# Altium integrated library Linear Technology Power Management System Supervisor, Monitor and Control.IntLib: 1611 symbols (part 66 of 100)
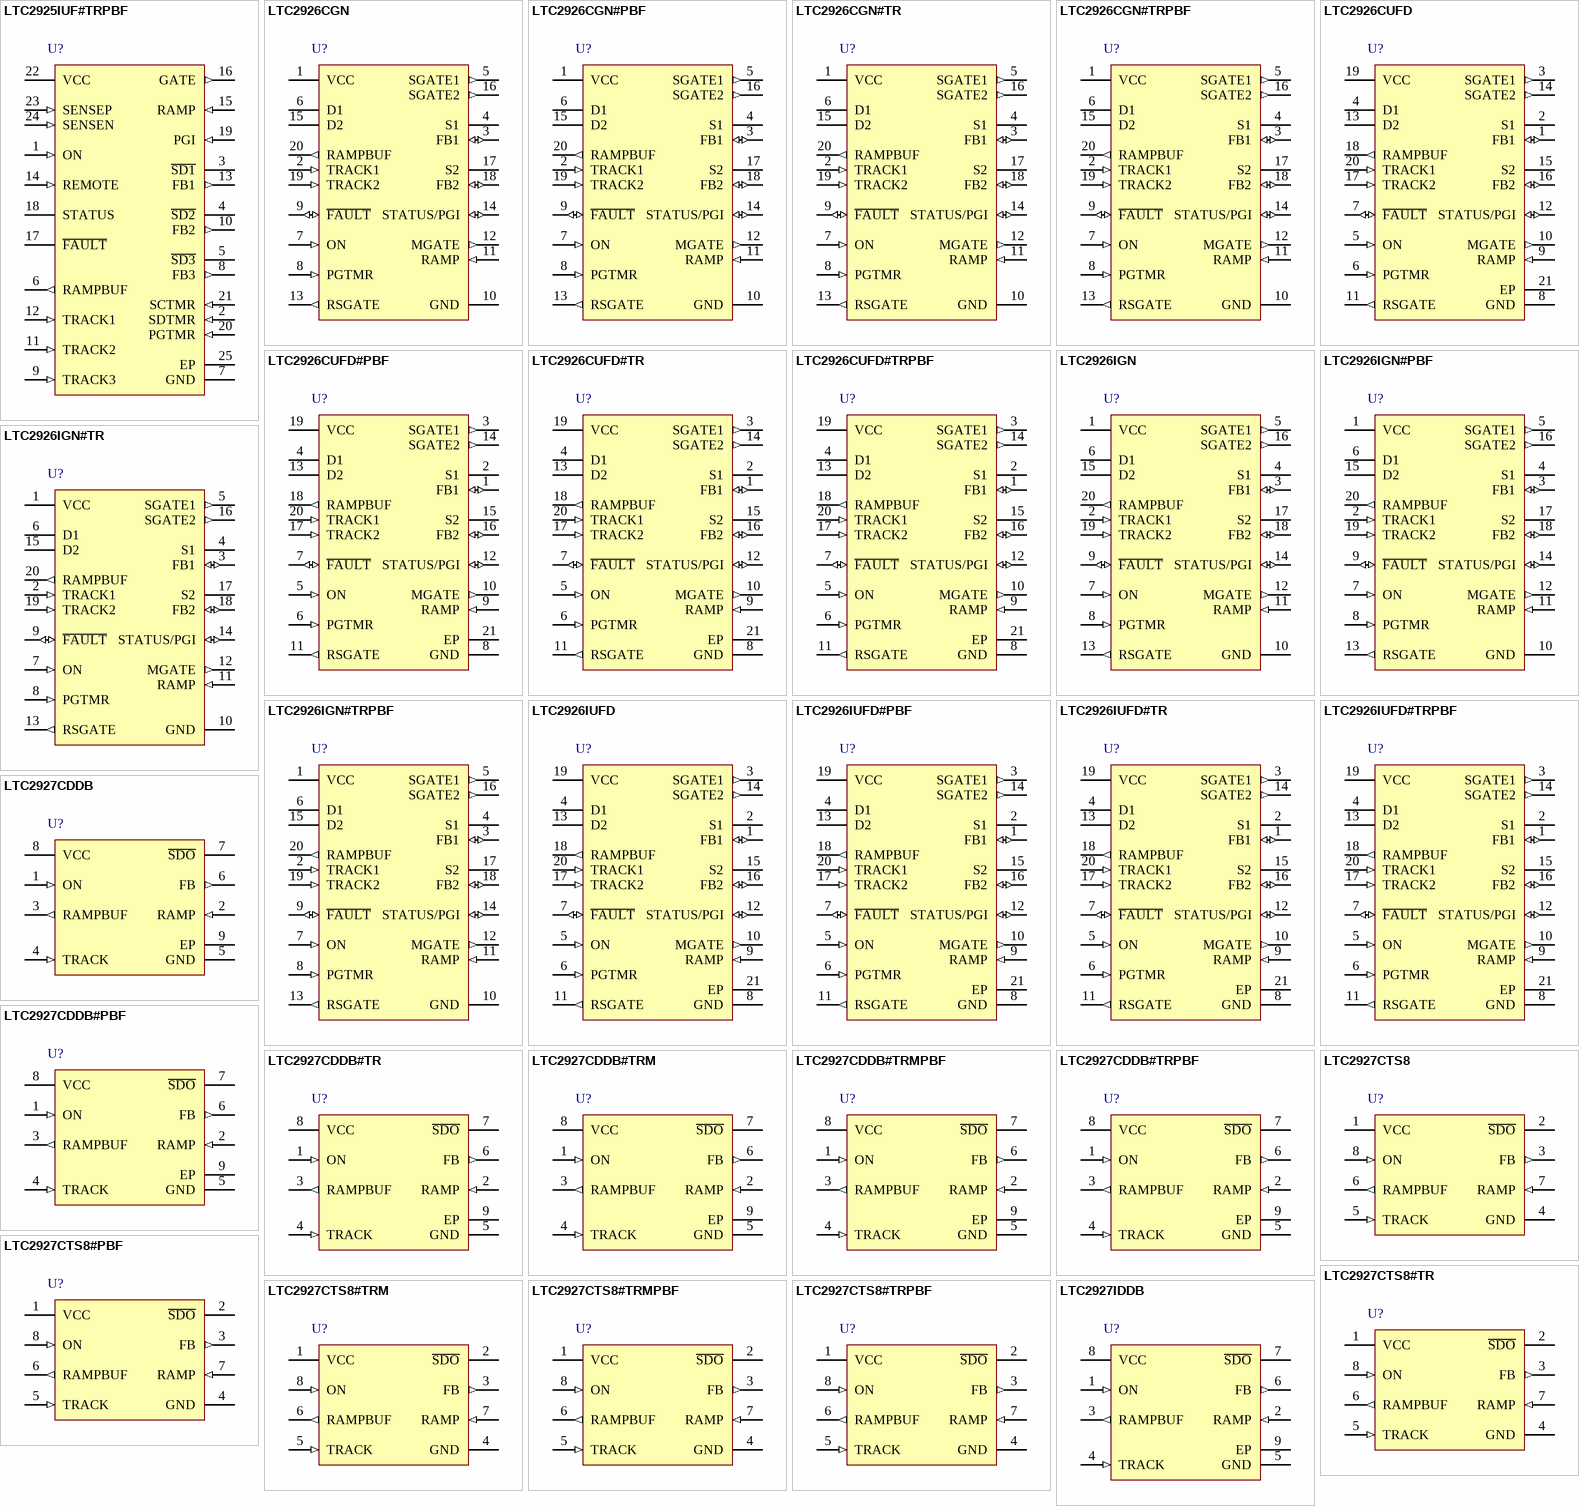
[diagram p110: symbols LTC2925IUF#TRPBF to LTC2927IDDB]

## LTC2925IUF#TRPBF
designator U?
Multiple Power Supply Tracking Controller with Power Good Timeout, 24-pin QFN (UF-24), -40 to 85 degC, Pb-Free, Tape and Reel; Manufacturer: Linear Technology; PartNumber: LTC2925IUF#TRPBF; Number of Supplies(#): 4; DatasheetVersion: Rev. C; PackageVersion: Rev. B, 02/2012; PackageReference: UF24; PackageDescription: 24-Pin Plastic QFN, Body 4 x 4 mm, Pitch 0.5 mm; Supplier 1: Digi-Key; Supplier Part Number 1: LTC2925IUF#TRPBF-ND; Packing: Tape and Reel; RoHS: TRUE; Mounting Technology: Surface Mount; Code_JEDEC: MO-220; ComponentLink1Description: Manufacturer URL; ComponentLink1URL: http://www.linear.com/; ComponentLink2Description: Datasheet; ComponentLink2URL: http://cds.linear.com/docs/en/datasheet/2925fc.pdf; ComponentLink3Description: Package Specification; ComponentLink3URL: http://cds.linear.com/docs/en/packaging/%28UF24%29%20QFN%2005-08-1697%20Rev%20B.pdf
footprint LT-UF-24_N (QFN, 24-Leads, Body 4.1x4.1mm, Pitch 0.5mm, Thermal Pad 2.45x2.45mm, IPC Medium Density)
footprint LT-UF-24_L (QFN, 24-Leads, Body 4.1x4.1mm, Pitch 0.5mm, Thermal Pad 2.45x2.45mm, IPC High Density)
footprint LT-UF-24_M (QFN, 24-Leads, Body 4.1x4.1mm, Pitch 0.5mm, Thermal Pad 2.45x2.45mm, IPC Low Density)
pins: 1 ON (in) "On Control Input. The ON pin has a threshold of 1.23V with 75mV of hysteresis. An active high will cause 10uA to flow from the GATE pin, ramping up the supplies. An active low pulls 10uA from the GATE pin, ramping the (See Datasheet)", 2 SDTMR (in) "Shutdown Timer. A capacitor from SDTMR to GND sets the delay time between the ON pin transitioning high (which releases the S\D\x\ pins) and the supplies beginning to ramp-up. Float SDTMR when it is unused.", 3 ~{SD1} (oc) "Outputs for Slave Supply Shutdowns. The S\D\x\ pins are open-drain outputs that hold the shutdown (RUN/SS) pins of the slave supplies low until the ON pin is pulled above 1.23V. The S\D\x\ pins will be pulled low again when (See Datasheet)", 4 ~{SD2} (oc) "Outputs for Slave Supply Shutdowns. The S\D\x\ pins are open-drain outputs that hold the shutdown (RUN/SS) pins of the slave supplies low until the ON pin is pulled above 1.23V. The S\D\x\ pins will be pulled low again when (See Datasheet)", 5 ~{SD3} (oc) "Outputs for Slave Supply Shutdowns. The S\D\x\ pins are open-drain outputs that hold the shutdown (RUN/SS) pins of the slave supplies low until the ON pin is pulled above 1.23V. The S\D\x\ pins will be pulled low again when (See Datasheet)", 6 RAMPBUF (out) "Ramp Buffer Output. Provides a low impedance buffered version of the signal on the RAMP pin. This buffered output drives the resistive dividers that connect to the TRACKx pins. Limit the capacitance at the RAMPBUF pin to (See Datasheet)", 7 GND (power) "Circuit Ground", 8 FB3 (out) "Feedback Control Output. FBx connects to the feedback node of slave supplies. Tracking is achieved by mirroring the current from TRACKx into FBx. If the appropriate resistive divider connects RAMPBUF and TRACKx, the FBx (See Datasheet)", 9 TRACK3 (in) "Tracking Control Input Pin. A resistive divider between RAMPBUF, TRACKx and GND determines the tracking profi le of OUTx (see Applications Information). TRACKx pulls up to 0.8V and the current supplied at TRACKx is mirrored (See Datasheet)", 10 FB2 (out) "Feedback Control Output. FBx connects to the feedback node of slave supplies. Tracking is achieved by mirroring the current from TRACKx into FBx. If the appropriate resistive divider connects RAMPBUF and TRACKx, the FBx (See Datasheet)", 11 TRACK2 (in) "Tracking Control Input Pin. A resistive divider between RAMPBUF, TRACKx and GND determines the tracking profi le of OUTx (see Applications Information). TRACKx pulls up to 0.8V and the current supplied at TRACKx is mirrored (See Datasheet)", 12 TRACK1 (in) "Tracking Control Input Pin. A resistive divider between RAMPBUF, TRACKx and GND determines the tracking profi le of OUTx (see Applications Information). TRACKx pulls up to 0.8V and the current supplied at TRACKx is mirrored (See Datasheet)", 13 FB1 (out) "Feedback Control Output. FBx connects to the feedback node of slave supplies. Tracking is achieved by mirroring the current from TRACKx into FBx. If the appropriate resistive divider connects RAMPBUF and TRACKx, the FBx (See Datasheet)", 14 REMOTE (in) "Remote Sense Switch. A 15ohm switch connects REMOTE to RAMP when the GATE is fully enhanced (GATE > RAMP + 4.9V). Otherwise, it presents a high impedance. When the slave supplies track the master supply, REMOTE can be used (See Datasheet)", 15 RAMP (in) "Ramp Buffer Input. When the RAMP pin is connected to the source of the external N-channel FET, the slave supplies track the FET’s source as it ramps up and down. Alternatively, when no external FET is used, the RAMP pi(See Datasheet)", 16 GATE (out) "Gate Drive for External N-Channel FET. When the ON pin is high, an internal 10uA current source charges the gate of the external N-channel MOSFET.A capacitor connected from GATE to GND sets the ramp rate. It is a good (See Datasheet)", 17 ~{FAULT} (oc) "Circuit Breaker and Power Good Timer Fault Output. F\A\U\L\T\ is an open-drain output that pulls low when the electronic circuit breaker is activated or a power good timeout fault is detected. F\A\U\L\T\ is reset by pulling (See Datasheet)", 18 STATUS (hiz) "Power Good Status Indicator. The STATUS pin is an open-drain output that pulls low until GATE has been fully charged at which time all supplies will have reached their final operating voltage.", 19 PGI (in) "Power Good Timer Input. PGI connects to the R\S\T\ pin of the downstream supply monitor. If PGI has not transitioned high within a power good timer cycle (see PGTMR), the F\A\U\L\T\ pin will be pulled low and the supplies (See Datasheet)", 20 PGTMR (in) "Power Good Timer. A capacitor from PGTMR to GND sets the power good timer duration.While ON > 1.23V, the PGTMR pin will pull up to VCC with 10uA. Otherwise, it pulls to GND. If the voltage on the PGTMR pin exceeds 1.23V and (See Datasheet)", 21 SCTMR (in) "Circuit Breaker Timer. A capacitor from SCTMR to GND programs the maximum time that a short circuit can be sustained before GATE is pulled low. When (SENSEP - SENSEN) > 50mV, SCTMR will pull up with 50uA, otherwise it pulls (See Datasheet)", 22 VCC (power) "Positive Supply Input. The operating supply input range is 2.9V to 5.5V. An undervoltage lockout circuit resets the part when the supply is below 2.5V. VCC should be bypassed to GND with a 0.1uF capacitor", 23 SENSEP (in) "Circuit Breaker Positive Sense Input. SENSEP and SENSEN measure the voltage across the sense resistor and trigger the circuit breaker function when the current exceeds the level programmed by the sense resistor for longer (See Datasheet)", 24 SENSEN (in) "Circuit Breaker Negative Sense Input. SENSEN connects to the low side of the current sense resistor. SENSEP and SENSEN monitor the current through the external FET by measuring the voltage across the sense resistor. The (See Datasheet)", 25 EP (power) "Circuit Ground"

## LTC2926CGN
designator U?
MOSFET-Controlled Power Supply Tracker, 20-pin SOP (GN-20), 0 to 70 degC; Manufacturer: Linear Technology; PartNumber: LTC2926CGN; Number of Supplies(#): 3; DatasheetVersion: Rev. A; PackageVersion: Rev. B, 03/2012; PackageReference: GN-20; PackageDescription: 20-Pin Plastic SSOP, Body 8.649 x 3.899 mm, Pitch 0.635 mm; RoHS: FALSE; Mounting Technology: Surface Mount; ComponentLink1Description: Manufacturer URL; ComponentLink1URL: http://www.linear.com/; ComponentLink2Description: Datasheet; ComponentLink2URL: http://cds.linear.com/docs/en/datasheet/2926fa.pdf; ComponentLink3Description: Package Specification; ComponentLink3URL: http://cds.linear.com/docs/en/packaging/05081641_B_GN20.pdf
footprint LT-GN-20_N (SOP, 20-Leads, Body 8.7x4mm, Pitch 0.635mm, IPC Medium Density)
footprint LT-GN-20_L (SOP, 20-Leads, Body 8.7x4mm, Pitch 0.635mm, IPC High Density)
footprint LT-GN-20_M (SOP, 20-Leads, Body 8.7x4mm, Pitch 0.635mm, IPC Low Density)
pins: 1 VCC (power) "Positive Voltage Supply. Operating range is from 2.9V to 5.5V. An undervoltage lockout resets the part when the supply is below 2.4V. VCC should be bypassed to GND with a 0.1uF capacitor.", 2 TRACK1 (in) "Tracking Control Inputs. A resistive voltage divider between RAMPBUF and each TRACK pin determines the tracking profi le of each supply channel. Each TRACK pin pulls up to 0.8V, and the current supplied at TRACK is mirrored (See Datasheet)", 3 FB1 (io) "Feedback Control Input/Outputs. Each FB pin connects to the feedback node of a slave supply. Connect an FB pin to the tap point of a resistive voltage divider between the source (load side) of the external MOSFET and GND. (See Datasheet)", 4 S1 "Remote Sense Switches #1 and #2. A 10ohm (max) switch connects each pair of pins (D1/S1 and D2/S2) after MGATE, SGATE1 and SGATE2 are all fully enhanced (MGATE > RAMP + 4.9V or RAMP > VCC, and SGATE1, SGATE2 > VCC + 4.9V). (See Datasheet)", 5 SGATE1 (out) "Slave Gate Controllers for External N-Channel MOSFETs. Each SGATE pin ramps a slave supply by controlling the gate of an external N-channel MOSFET so that its source terminal follows the tracking profile set by external (See Datasheet)", 6 D1 "Remote Sense Switches #1 and #2. A 10ohm (max) switch connects each pair of pins (D1/S1 and D2/S2) after MGATE, SGATE1 and SGATE2 are all fully enhanced (MGATE > RAMP + 4.9V or RAMP > VCC, and SGATE1, SGATE2 > VCC + 4.9V). (See Datasheet)", 7 ON (in) "On Control Input. The ON pin has a threshold of 1.23V with 75mV of hysteresis. A high causes 10uA to flow out of the MGATE pin, ramping up the supplies. A low causes 10uA to flow into the MGATE pin, ramping down the supplies.(See Datasheet)", 8 PGTMR (in) "Power Good Timer. Connect an external capacitor between PGTMR and GND to set the Power Good Time-Out Delay. When the ON pin is above 1.23V, a 10uA current pulls up PGTMR to VCC, otherwise an internal N-channel MOSFET pulls (See Datasheet)", 9 ~{FAULT} (io) "Negative-Logic Fault Input/Output. Under normal conditions the internal fault latch is not set and an 8.5uA current pulls up F\A\U\L\T\ to a diode drop below VCC. When the voltage at F\A\U\L\T\ is pulled below 0.5V, a fault (See Datasheet)", 10 GND (power) "Device Ground.", 11 RAMP (in) "Ramp Buffer Input. Connect the RAMP pin to the master ramp signal to force the slave supplies to track it. When the RAMP pin is connected to the source of an external N-channel MOSFET, the slave supplies track the MOSFET’(See Datasheet)", 12 MGATE (out) "Master Gate Drive for External N-Channel MOSFET/Master Ramp. When the ON pin is high, an internal 10uA current charges the gate of an external N-channel MOSFET. A capacitor from MGATE to GND sets the master ramp rate. Add a (See Datasheet)", 13 RSGATE (out) "Gate Drive for Internal and External N-Channel MOSFET Remote Sense Switches. A remote sense path between a load and the sense input of its supply generator automatically compensates for voltage drops across the tracking (See Datasheet)", 14 STATUS/PGI (io) "Status Output/Power Good Input. A 10uA current pulls up STATUS/PGI when MGATE, SGATE1 and SGATE2 are fully enhanced, and the remote sense switches are closed, otherwise an internal N-channel MOSFET pulls down STATUS/PGI. If (See Datasheet)", 15 D2 "Remote Sense Switches #1 and #2. A 10ohm (max) switch connects each pair of pins (D1/S1 and D2/S2) after MGATE, SGATE1 and SGATE2 are all fully enhanced (MGATE > RAMP + 4.9V or RAMP > VCC, and SGATE1, SGATE2 > VCC + 4.9V). (See Datasheet)", 16 SGATE2 (out) "Slave Gate Controllers for External N-Channel MOSFETs. Each SGATE pin ramps a slave supply by controlling the gate of an external N-channel MOSFET so that its source terminal follows the tracking profi le set by external (See Datasheet)", 17 S2 "Remote Sense Switches #1 and #2. A 10ohm (max) switch connects each pair of pins (D1/S1 and D2/S2) after MGATE, SGATE1 and SGATE2 are all fully enhanced (MGATE > RAMP + 4.9V or RAMP > VCC, and SGATE1, SGATE2 > VCC + 4.9V). (See Datasheet)", 18 FB2 (io) "Feedback Control Input/Outputs. Each FB pin connects to the feedback node of a slave supply. Connect an FB pin to the tap point of a resistive voltage divider between the source (load side) of the external MOSFET and GND. (See Datasheet)", 19 TRACK2 (in) "Tracking Control Inputs. A resistive voltage divider between RAMPBUF and each TRACK pin determines the tracking profi le of each supply channel. Each TRACK pin pulls up to 0.8V, and the current supplied at TRACK is mirrored (See Datasheet)", 20 RAMPBUF (out) "Ramp Buffer Output. The RAMPBUF pin provides a low impedance buffered version of the signal on the RAMP pin. This buffered output drives the resistive voltage dividers that connect to the TRACK pins. Limit the capacitance at (See Datasheet)"

## LTC2926CGN#PBF
designator U?
MOSFET-Controlled Power Supply Tracker, 20-pin SOP (GN-20), 0 to 70 degC, Pb-Free; Manufacturer: Linear Technology; PartNumber: LTC2926CGN#PBF; Number of Supplies(#): 3; DatasheetVersion: Rev. A; PackageVersion: Rev. B, 03/2012; PackageReference: GN-20; PackageDescription: 20-Pin Plastic SSOP, Body 8.649 x 3.899 mm, Pitch 0.635 mm; Supplier 1: Digi-Key; Supplier Part Number 1: LTC2926CGN#PBF-ND; Supplier 2: Newark; Supplier Part Number 2: 56M7122; RoHS: TRUE; Mounting Technology: Surface Mount; ComponentLink1Description: Manufacturer URL; ComponentLink1URL: http://www.linear.com/; ComponentLink2Description: Datasheet; ComponentLink2URL: http://cds.linear.com/docs/en/datasheet/2926fa.pdf; ComponentLink3Description: Package Specification; ComponentLink3URL: http://cds.linear.com/docs/en/packaging/05081641_B_GN20.pdf
footprint LT-GN-20_N (SOP, 20-Leads, Body 8.7x4mm, Pitch 0.635mm, IPC Medium Density)
footprint LT-GN-20_L (SOP, 20-Leads, Body 8.7x4mm, Pitch 0.635mm, IPC High Density)
footprint LT-GN-20_M (SOP, 20-Leads, Body 8.7x4mm, Pitch 0.635mm, IPC Low Density)
pins: 1 VCC (power) "Positive Voltage Supply. Operating range is from 2.9V to 5.5V. An undervoltage lockout resets the part when the supply is below 2.4V. VCC should be bypassed to GND with a 0.1uF capacitor.", 2 TRACK1 (in) "Tracking Control Inputs. A resistive voltage divider between RAMPBUF and each TRACK pin determines the tracking profi le of each supply channel. Each TRACK pin pulls up to 0.8V, and the current supplied at TRACK is mirrored (See Datasheet)", 3 FB1 (io) "Feedback Control Input/Outputs. Each FB pin connects to the feedback node of a slave supply. Connect an FB pin to the tap point of a resistive voltage divider between the source (load side) of the external MOSFET and GND. (See Datasheet)", 4 S1 "Remote Sense Switches #1 and #2. A 10ohm (max) switch connects each pair of pins (D1/S1 and D2/S2) after MGATE, SGATE1 and SGATE2 are all fully enhanced (MGATE > RAMP + 4.9V or RAMP > VCC, and SGATE1, SGATE2 > VCC + 4.9V). (See Datasheet)", 5 SGATE1 (out) "Slave Gate Controllers for External N-Channel MOSFETs. Each SGATE pin ramps a slave supply by controlling the gate of an external N-channel MOSFET so that its source terminal follows the tracking profile set by external (See Datasheet)", 6 D1 "Remote Sense Switches #1 and #2. A 10ohm (max) switch connects each pair of pins (D1/S1 and D2/S2) after MGATE, SGATE1 and SGATE2 are all fully enhanced (MGATE > RAMP + 4.9V or RAMP > VCC, and SGATE1, SGATE2 > VCC + 4.9V). (See Datasheet)", 7 ON (in) "On Control Input. The ON pin has a threshold of 1.23V with 75mV of hysteresis. A high causes 10uA to flow out of the MGATE pin, ramping up the supplies. A low causes 10uA to flow into the MGATE pin, ramping down the supplies.(See Datasheet)", 8 PGTMR (in) "Power Good Timer. Connect an external capacitor between PGTMR and GND to set the Power Good Time-Out Delay. When the ON pin is above 1.23V, a 10uA current pulls up PGTMR to VCC, otherwise an internal N-channel MOSFET pulls (See Datasheet)", 9 ~{FAULT} (io) "Negative-Logic Fault Input/Output. Under normal conditions the internal fault latch is not set and an 8.5uA current pulls up F\A\U\L\T\ to a diode drop below VCC. When the voltage at F\A\U\L\T\ is pulled below 0.5V, a fault (See Datasheet)", 10 GND (power) "Device Ground.", 11 RAMP (in) "Ramp Buffer Input. Connect the RAMP pin to the master ramp signal to force the slave supplies to track it. When the RAMP pin is connected to the source of an external N-channel MOSFET, the slave supplies track the MOSFET’(See Datasheet)", 12 MGATE (out) "Master Gate Drive for External N-Channel MOSFET/Master Ramp. When the ON pin is high, an internal 10uA current charges the gate of an external N-channel MOSFET. A capacitor from MGATE to GND sets the master ramp rate. Add a (See Datasheet)", 13 RSGATE (out) "Gate Drive for Internal and External N-Channel MOSFET Remote Sense Switches. A remote sense path between a load and the sense input of its supply generator automatically compensates for voltage drops across the tracking (See Datasheet)", 14 STATUS/PGI (io) "Status Output/Power Good Input. A 10uA current pulls up STATUS/PGI when MGATE, SGATE1 and SGATE2 are fully enhanced, and the remote sense switches are closed, otherwise an internal N-channel MOSFET pulls down STATUS/PGI. If (See Datasheet)", 15 D2 "Remote Sense Switches #1 and #2. A 10ohm (max) switch connects each pair of pins (D1/S1 and D2/S2) after MGATE, SGATE1 and SGATE2 are all fully enhanced (MGATE > RAMP + 4.9V or RAMP > VCC, and SGATE1, SGATE2 > VCC + 4.9V). (See Datasheet)", 16 SGATE2 (out) "Slave Gate Controllers for External N-Channel MOSFETs. Each SGATE pin ramps a slave supply by controlling the gate of an external N-channel MOSFET so that its source terminal follows the tracking profi le set by external (See Datasheet)", 17 S2 "Remote Sense Switches #1 and #2. A 10ohm (max) switch connects each pair of pins (D1/S1 and D2/S2) after MGATE, SGATE1 and SGATE2 are all fully enhanced (MGATE > RAMP + 4.9V or RAMP > VCC, and SGATE1, SGATE2 > VCC + 4.9V). (See Datasheet)", 18 FB2 (io) "Feedback Control Input/Outputs. Each FB pin connects to the feedback node of a slave supply. Connect an FB pin to the tap point of a resistive voltage divider between the source (load side) of the external MOSFET and GND. (See Datasheet)", 19 TRACK2 (in) "Tracking Control Inputs. A resistive voltage divider between RAMPBUF and each TRACK pin determines the tracking profi le of each supply channel. Each TRACK pin pulls up to 0.8V, and the current supplied at TRACK is mirrored (See Datasheet)", 20 RAMPBUF (out) "Ramp Buffer Output. The RAMPBUF pin provides a low impedance buffered version of the signal on the RAMP pin. This buffered output drives the resistive voltage dividers that connect to the TRACK pins. Limit the capacitance at (See Datasheet)"

## LTC2926CGN#TR
designator U?
MOSFET-Controlled Power Supply Tracker, 20-pin SOP (GN-20), 0 to 70 degC, Tape and Reel; Manufacturer: Linear Technology; PartNumber: LTC2926CGN#TR; Number of Supplies(#): 3; DatasheetVersion: Rev. A; PackageVersion: Rev. B, 03/2012; PackageReference: GN-20; PackageDescription: 20-Pin Plastic SSOP, Body 8.649 x 3.899 mm, Pitch 0.635 mm; Packing: Tape and Reel; RoHS: FALSE; Mounting Technology: Surface Mount; ComponentLink1Description: Manufacturer URL; ComponentLink1URL: http://www.linear.com/; ComponentLink2Description: Datasheet; ComponentLink2URL: http://cds.linear.com/docs/en/datasheet/2926fa.pdf; ComponentLink3Description: Package Specification; ComponentLink3URL: http://cds.linear.com/docs/en/packaging/05081641_B_GN20.pdf
footprint LT-GN-20_N (SOP, 20-Leads, Body 8.7x4mm, Pitch 0.635mm, IPC Medium Density)
footprint LT-GN-20_L (SOP, 20-Leads, Body 8.7x4mm, Pitch 0.635mm, IPC High Density)
footprint LT-GN-20_M (SOP, 20-Leads, Body 8.7x4mm, Pitch 0.635mm, IPC Low Density)
pins: 1 VCC (power) "Positive Voltage Supply. Operating range is from 2.9V to 5.5V. An undervoltage lockout resets the part when the supply is below 2.4V. VCC should be bypassed to GND with a 0.1uF capacitor.", 2 TRACK1 (in) "Tracking Control Inputs. A resistive voltage divider between RAMPBUF and each TRACK pin determines the tracking profi le of each supply channel. Each TRACK pin pulls up to 0.8V, and the current supplied at TRACK is mirrored (See Datasheet)", 3 FB1 (io) "Feedback Control Input/Outputs. Each FB pin connects to the feedback node of a slave supply. Connect an FB pin to the tap point of a resistive voltage divider between the source (load side) of the external MOSFET and GND. (See Datasheet)", 4 S1 "Remote Sense Switches #1 and #2. A 10ohm (max) switch connects each pair of pins (D1/S1 and D2/S2) after MGATE, SGATE1 and SGATE2 are all fully enhanced (MGATE > RAMP + 4.9V or RAMP > VCC, and SGATE1, SGATE2 > VCC + 4.9V). (See Datasheet)", 5 SGATE1 (out) "Slave Gate Controllers for External N-Channel MOSFETs. Each SGATE pin ramps a slave supply by controlling the gate of an external N-channel MOSFET so that its source terminal follows the tracking profile set by external (See Datasheet)", 6 D1 "Remote Sense Switches #1 and #2. A 10ohm (max) switch connects each pair of pins (D1/S1 and D2/S2) after MGATE, SGATE1 and SGATE2 are all fully enhanced (MGATE > RAMP + 4.9V or RAMP > VCC, and SGATE1, SGATE2 > VCC + 4.9V). (See Datasheet)", 7 ON (in) "On Control Input. The ON pin has a threshold of 1.23V with 75mV of hysteresis. A high causes 10uA to flow out of the MGATE pin, ramping up the supplies. A low causes 10uA to flow into the MGATE pin, ramping down the supplies.(See Datasheet)", 8 PGTMR (in) "Power Good Timer. Connect an external capacitor between PGTMR and GND to set the Power Good Time-Out Delay. When the ON pin is above 1.23V, a 10uA current pulls up PGTMR to VCC, otherwise an internal N-channel MOSFET pulls (See Datasheet)", 9 ~{FAULT} (io) "Negative-Logic Fault Input/Output. Under normal conditions the internal fault latch is not set and an 8.5uA current pulls up F\A\U\L\T\ to a diode drop below VCC. When the voltage at F\A\U\L\T\ is pulled below 0.5V, a fault (See Datasheet)", 10 GND (power) "Device Ground.", 11 RAMP (in) "Ramp Buffer Input. Connect the RAMP pin to the master ramp signal to force the slave supplies to track it. When the RAMP pin is connected to the source of an external N-channel MOSFET, the slave supplies track the MOSFET’(See Datasheet)", 12 MGATE (out) "Master Gate Drive for External N-Channel MOSFET/Master Ramp. When the ON pin is high, an internal 10uA current charges the gate of an external N-channel MOSFET. A capacitor from MGATE to GND sets the master ramp rate. Add a (See Datasheet)", 13 RSGATE (out) "Gate Drive for Internal and External N-Channel MOSFET Remote Sense Switches. A remote sense path between a load and the sense input of its supply generator automatically compensates for voltage drops across the tracking (See Datasheet)", 14 STATUS/PGI (io) "Status Output/Power Good Input. A 10uA current pulls up STATUS/PGI when MGATE, SGATE1 and SGATE2 are fully enhanced, and the remote sense switches are closed, otherwise an internal N-channel MOSFET pulls down STATUS/PGI. If (See Datasheet)", 15 D2 "Remote Sense Switches #1 and #2. A 10ohm (max) switch connects each pair of pins (D1/S1 and D2/S2) after MGATE, SGATE1 and SGATE2 are all fully enhanced (MGATE > RAMP + 4.9V or RAMP > VCC, and SGATE1, SGATE2 > VCC + 4.9V). (See Datasheet)", 16 SGATE2 (out) "Slave Gate Controllers for External N-Channel MOSFETs. Each SGATE pin ramps a slave supply by controlling the gate of an external N-channel MOSFET so that its source terminal follows the tracking profi le set by external (See Datasheet)", 17 S2 "Remote Sense Switches #1 and #2. A 10ohm (max) switch connects each pair of pins (D1/S1 and D2/S2) after MGATE, SGATE1 and SGATE2 are all fully enhanced (MGATE > RAMP + 4.9V or RAMP > VCC, and SGATE1, SGATE2 > VCC + 4.9V). (See Datasheet)", 18 FB2 (io) "Feedback Control Input/Outputs. Each FB pin connects to the feedback node of a slave supply. Connect an FB pin to the tap point of a resistive voltage divider between the source (load side) of the external MOSFET and GND. (See Datasheet)", 19 TRACK2 (in) "Tracking Control Inputs. A resistive voltage divider between RAMPBUF and each TRACK pin determines the tracking profi le of each supply channel. Each TRACK pin pulls up to 0.8V, and the current supplied at TRACK is mirrored (See Datasheet)", 20 RAMPBUF (out) "Ramp Buffer Output. The RAMPBUF pin provides a low impedance buffered version of the signal on the RAMP pin. This buffered output drives the resistive voltage dividers that connect to the TRACK pins. Limit the capacitance at (See Datasheet)"

## LTC2926CGN#TRPBF
designator U?
MOSFET-Controlled Power Supply Tracker, 20-pin SOP (GN-20), 0 to 70 degC, Pb-Free, Tape and Reel; Manufacturer: Linear Technology; PartNumber: LTC2926CGN#TRPBF; Number of Supplies(#): 3; DatasheetVersion: Rev. A; PackageVersion: Rev. B, 03/2012; PackageReference: GN-20; PackageDescription: 20-Pin Plastic SSOP, Body 8.649 x 3.899 mm, Pitch 0.635 mm; Supplier 1: Digi-Key; Supplier Part Number 1: LTC2926CGN#TRPBF-ND; Packing: Tape and Reel; RoHS: TRUE; Mounting Technology: Surface Mount; ComponentLink1Description: Manufacturer URL; ComponentLink1URL: http://www.linear.com/; ComponentLink2Description: Datasheet; ComponentLink2URL: http://cds.linear.com/docs/en/datasheet/2926fa.pdf; ComponentLink3Description: Package Specification; ComponentLink3URL: http://cds.linear.com/docs/en/packaging/05081641_B_GN20.pdf
footprint LT-GN-20_N (SOP, 20-Leads, Body 8.7x4mm, Pitch 0.635mm, IPC Medium Density)
footprint LT-GN-20_L (SOP, 20-Leads, Body 8.7x4mm, Pitch 0.635mm, IPC High Density)
footprint LT-GN-20_M (SOP, 20-Leads, Body 8.7x4mm, Pitch 0.635mm, IPC Low Density)
pins: 1 VCC (power) "Positive Voltage Supply. Operating range is from 2.9V to 5.5V. An undervoltage lockout resets the part when the supply is below 2.4V. VCC should be bypassed to GND with a 0.1uF capacitor.", 2 TRACK1 (in) "Tracking Control Inputs. A resistive voltage divider between RAMPBUF and each TRACK pin determines the tracking profi le of each supply channel. Each TRACK pin pulls up to 0.8V, and the current supplied at TRACK is mirrored (See Datasheet)", 3 FB1 (io) "Feedback Control Input/Outputs. Each FB pin connects to the feedback node of a slave supply. Connect an FB pin to the tap point of a resistive voltage divider between the source (load side) of the external MOSFET and GND. (See Datasheet)", 4 S1 "Remote Sense Switches #1 and #2. A 10ohm (max) switch connects each pair of pins (D1/S1 and D2/S2) after MGATE, SGATE1 and SGATE2 are all fully enhanced (MGATE > RAMP + 4.9V or RAMP > VCC, and SGATE1, SGATE2 > VCC + 4.9V). (See Datasheet)", 5 SGATE1 (out) "Slave Gate Controllers for External N-Channel MOSFETs. Each SGATE pin ramps a slave supply by controlling the gate of an external N-channel MOSFET so that its source terminal follows the tracking profile set by external (See Datasheet)", 6 D1 "Remote Sense Switches #1 and #2. A 10ohm (max) switch connects each pair of pins (D1/S1 and D2/S2) after MGATE, SGATE1 and SGATE2 are all fully enhanced (MGATE > RAMP + 4.9V or RAMP > VCC, and SGATE1, SGATE2 > VCC + 4.9V). (See Datasheet)", 7 ON (in) "On Control Input. The ON pin has a threshold of 1.23V with 75mV of hysteresis. A high causes 10uA to flow out of the MGATE pin, ramping up the supplies. A low causes 10uA to flow into the MGATE pin, ramping down the supplies.(See Datasheet)", 8 PGTMR (in) "Power Good Timer. Connect an external capacitor between PGTMR and GND to set the Power Good Time-Out Delay. When the ON pin is above 1.23V, a 10uA current pulls up PGTMR to VCC, otherwise an internal N-channel MOSFET pulls (See Datasheet)", 9 ~{FAULT} (io) "Negative-Logic Fault Input/Output. Under normal conditions the internal fault latch is not set and an 8.5uA current pulls up F\A\U\L\T\ to a diode drop below VCC. When the voltage at F\A\U\L\T\ is pulled below 0.5V, a fault (See Datasheet)", 10 GND (power) "Device Ground.", 11 RAMP (in) "Ramp Buffer Input. Connect the RAMP pin to the master ramp signal to force the slave supplies to track it. When the RAMP pin is connected to the source of an external N-channel MOSFET, the slave supplies track the MOSFET’(See Datasheet)", 12 MGATE (out) "Master Gate Drive for External N-Channel MOSFET/Master Ramp. When the ON pin is high, an internal 10uA current charges the gate of an external N-channel MOSFET. A capacitor from MGATE to GND sets the master ramp rate. Add a (See Datasheet)", 13 RSGATE (out) "Gate Drive for Internal and External N-Channel MOSFET Remote Sense Switches. A remote sense path between a load and the sense input of its supply generator automatically compensates for voltage drops across the tracking (See Datasheet)", 14 STATUS/PGI (io) "Status Output/Power Good Input. A 10uA current pulls up STATUS/PGI when MGATE, SGATE1 and SGATE2 are fully enhanced, and the remote sense switches are closed, otherwise an internal N-channel MOSFET pulls down STATUS/PGI. If (See Datasheet)", 15 D2 "Remote Sense Switches #1 and #2. A 10ohm (max) switch connects each pair of pins (D1/S1 and D2/S2) after MGATE, SGATE1 and SGATE2 are all fully enhanced (MGATE > RAMP + 4.9V or RAMP > VCC, and SGATE1, SGATE2 > VCC + 4.9V). (See Datasheet)", 16 SGATE2 (out) "Slave Gate Controllers for External N-Channel MOSFETs. Each SGATE pin ramps a slave supply by controlling the gate of an external N-channel MOSFET so that its source terminal follows the tracking profi le set by external (See Datasheet)", 17 S2 "Remote Sense Switches #1 and #2. A 10ohm (max) switch connects each pair of pins (D1/S1 and D2/S2) after MGATE, SGATE1 and SGATE2 are all fully enhanced (MGATE > RAMP + 4.9V or RAMP > VCC, and SGATE1, SGATE2 > VCC + 4.9V). (See Datasheet)", 18 FB2 (io) "Feedback Control Input/Outputs. Each FB pin connects to the feedback node of a slave supply. Connect an FB pin to the tap point of a resistive voltage divider between the source (load side) of the external MOSFET and GND. (See Datasheet)", 19 TRACK2 (in) "Tracking Control Inputs. A resistive voltage divider between RAMPBUF and each TRACK pin determines the tracking profi le of each supply channel. Each TRACK pin pulls up to 0.8V, and the current supplied at TRACK is mirrored (See Datasheet)", 20 RAMPBUF (out) "Ramp Buffer Output. The RAMPBUF pin provides a low impedance buffered version of the signal on the RAMP pin. This buffered output drives the resistive voltage dividers that connect to the TRACK pins. Limit the capacitance at (See Datasheet)"

## LTC2926CUFD
designator U?
MOSFET-Controlled Power Supply Tracker, 20-pin QFN (UFD-20), 0 to 70 degC; Manufacturer: Linear Technology; PartNumber: LTC2926CUFD; Number of Supplies(#): 3; DatasheetVersion: Rev. A; PackageVersion: Rev. B, 06/2010; PackageReference: UFD-20; PackageDescription: 20-Pin Plastic QFN, Body 5 x 4 mm, Pitch 0.5 mm; RoHS: FALSE; Mounting Technology: Surface Mount; Code_JEDEC: MO-220; ComponentLink1Description: Manufacturer URL; ComponentLink1URL: http://www.linear.com/; ComponentLink2Description: Datasheet; ComponentLink2URL: http://cds.linear.com/docs/en/datasheet/2926fa.pdf; ComponentLink3Description: Package Specification; ComponentLink3URL: http://cds.linear.com/docs/en/packaging/QFN_20_05-08-1711.pdf
footprint LT-UFD-20_N (QFN, 20-Leads, Body 5.1x4.1mm, Pitch 0.5mm, Thermal Pad 2.65x3.65mm, IPC Medium Density)
footprint LT-UFD-20_L (QFN, 20-Leads, Body 5.1x4.1mm, Pitch 0.5mm, Thermal Pad 2.65x3.65mm, IPC High Density)
footprint LT-UFD-20_M (QFN, 20-Leads, Body 5.1x4.1mm, Pitch 0.5mm, Thermal Pad 2.65x3.65mm, IPC Low Density)
pins: 1 FB1 (io) "Feedback Control Input/Outputs. Each FB pin connects to the feedback node of a slave supply. Connect an FB pin to the tap point of a resistive voltage divider between the source (load side) of the external MOSFET and GND. (See Datasheet)", 2 S1 "Remote Sense Switches #1 and #2. A 10ohm (max) switch connects each pair of pins (D1/S1 and D2/S2) after MGATE, SGATE1 and SGATE2 are all fully enhanced (MGATE > RAMP + 4.9V or RAMP > VCC, and SGATE1, SGATE2 > VCC + 4.9V). (See Datasheet)", 3 SGATE1 (out) "Slave Gate Controllers for External N-Channel MOSFETs. Each SGATE pin ramps a slave supply by controlling the gate of an external N-channel MOSFET so that its source terminal follows the tracking profile set by external (See Datasheet)", 4 D1 "Remote Sense Switches #1 and #2. A 10ohm (max) switch connects each pair of pins (D1/S1 and D2/S2) after MGATE, SGATE1 and SGATE2 are all fully enhanced (MGATE > RAMP + 4.9V or RAMP > VCC, and SGATE1, SGATE2 > VCC + 4.9V). (See Datasheet)", 5 ON (in) "On Control Input. The ON pin has a threshold of 1.23V with 75mV of hysteresis. A high causes 10uA to flow out of the MGATE pin, ramping up the supplies. A low causes 10uA to flow into the MGATE pin, ramping down the supplies.(See Datasheet)", 6 PGTMR (in) "Power Good Timer. Connect an external capacitor between PGTMR and GND to set the Power Good Time-Out Delay. When the ON pin is above 1.23V, a 10uA current pulls up PGTMR to VCC, otherwise an internal N-channel MOSFET pulls (See Datasheet)", 7 ~{FAULT} (io) "Negative-Logic Fault Input/Output. Under normal conditions the internal fault latch is not set and an 8.5uA current pulls up F\A\U\L\T\ to a diode drop below VCC. When the voltage at F\A\U\L\T\ is pulled below 0.5V, a fault (See Datasheet)", 8 GND (power) "Device Ground.", 9 RAMP (in) "Ramp Buffer Input. Connect the RAMP pin to the master ramp signal to force the slave supplies to track it. When the RAMP pin is connected to the source of an external N-channel MOSFET, the slave supplies track the MOSFET’(See Datasheet)", 10 MGATE (out) "Master Gate Drive for External N-Channel MOSFET/Master Ramp. When the ON pin is high, an internal 10uA current charges the gate of an external N-channel MOSFET. A capacitor from MGATE to GND sets the master ramp rate. Add a (See Datasheet)", 11 RSGATE (out) "Gate Drive for Internal and External N-Channel MOSFET Remote Sense Switches. A remote sense path between a load and the sense input of its supply generator automatically compensates for voltage drops across the tracking (See Datasheet)", 12 STATUS/PGI (io) "Status Output/Power Good Input. A 10uA current pulls up STATUS/PGI when MGATE, SGATE1 and SGATE2 are fully enhanced, and the remote sense switches are closed, otherwise an internal N-channel MOSFET pulls down STATUS/PGI. If (See Datasheet)", 13 D2 "Remote Sense Switches #1 and #2. A 10ohm (max) switch connects each pair of pins (D1/S1 and D2/S2) after MGATE, SGATE1 and SGATE2 are all fully enhanced (MGATE > RAMP + 4.9V or RAMP > VCC, and SGATE1, SGATE2 > VCC + 4.9V). (See Datasheet)", 14 SGATE2 (out) "Slave Gate Controllers for External N-Channel MOSFETs. Each SGATE pin ramps a slave supply by controlling the gate of an external N-channel MOSFET so that its source terminal follows the tracking profi le set by external (See Datasheet)", 15 S2 "Remote Sense Switches #1 and #2. A 10ohm (max) switch connects each pair of pins (D1/S1 and D2/S2) after MGATE, SGATE1 and SGATE2 are all fully enhanced (MGATE > RAMP + 4.9V or RAMP > VCC, and SGATE1, SGATE2 > VCC + 4.9V). (See Datasheet)", 16 FB2 (io) "Feedback Control Input/Outputs. Each FB pin connects to the feedback node of a slave supply. Connect an FB pin to the tap point of a resistive voltage divider between the source (load side) of the external MOSFET and GND. (See Datasheet)", 17 TRACK2 (in) "Tracking Control Inputs. A resistive voltage divider between RAMPBUF and each TRACK pin determines the tracking profi le of each supply channel. Each TRACK pin pulls up to 0.8V, and the current supplied at TRACK is mirrored (See Datasheet)", 18 RAMPBUF (out) "Ramp Buffer Output. The RAMPBUF pin provides a low impedance buffered version of the signal on the RAMP pin. This buffered output drives the resistive voltage dividers that connect to the TRACK pins. Limit the capacitance at (See Datasheet)", 19 VCC (power) "Positive Voltage Supply. Operating range is from 2.9V to 5.5V. An undervoltage lockout resets the part when the supply is below 2.4V. VCC should be bypassed to GND with a 0.1uF capacitor.", 20 TRACK1 (in) "Tracking Control Inputs. A resistive voltage divider between RAMPBUF and each TRACK pin determines the tracking profi le of each supply channel. Each TRACK pin pulls up to 0.8V, and the current supplied at TRACK is mirrored (See Datasheet)", 21 EP (power) "Exposed pad may be left open or connected to device GND."

## LTC2926CUFD#PBF
designator U?
MOSFET-Controlled Power Supply Tracker, 20-pin QFN (UFD-20), 0 to 70 degC, Pb-Free; Manufacturer: Linear Technology; PartNumber: LTC2926CUFD#PBF; Number of Supplies(#): 3; DatasheetVersion: Rev. A; PackageVersion: Rev. B, 06/2010; PackageReference: UFD-20; PackageDescription: 20-Pin Plastic QFN, Body 5 x 4 mm, Pitch 0.5 mm; Supplier 1: Digi-Key; Supplier Part Number 1: LTC2926CUFD#PBF-ND; RoHS: TRUE; Mounting Technology: Surface Mount; Code_JEDEC: MO-220; ComponentLink1Description: Manufacturer URL; ComponentLink1URL: http://www.linear.com/; ComponentLink2Description: Datasheet; ComponentLink2URL: http://cds.linear.com/docs/en/datasheet/2926fa.pdf; ComponentLink3Description: Package Specification; ComponentLink3URL: http://cds.linear.com/docs/en/packaging/QFN_20_05-08-1711.pdf
footprint LT-UFD-20_N (QFN, 20-Leads, Body 5.1x4.1mm, Pitch 0.5mm, Thermal Pad 2.65x3.65mm, IPC Medium Density)
footprint LT-UFD-20_L (QFN, 20-Leads, Body 5.1x4.1mm, Pitch 0.5mm, Thermal Pad 2.65x3.65mm, IPC High Density)
footprint LT-UFD-20_M (QFN, 20-Leads, Body 5.1x4.1mm, Pitch 0.5mm, Thermal Pad 2.65x3.65mm, IPC Low Density)
pins: 1 FB1 (io) "Feedback Control Input/Outputs. Each FB pin connects to the feedback node of a slave supply. Connect an FB pin to the tap point of a resistive voltage divider between the source (load side) of the external MOSFET and GND. (See Datasheet)", 2 S1 "Remote Sense Switches #1 and #2. A 10ohm (max) switch connects each pair of pins (D1/S1 and D2/S2) after MGATE, SGATE1 and SGATE2 are all fully enhanced (MGATE > RAMP + 4.9V or RAMP > VCC, and SGATE1, SGATE2 > VCC + 4.9V). (See Datasheet)", 3 SGATE1 (out) "Slave Gate Controllers for External N-Channel MOSFETs. Each SGATE pin ramps a slave supply by controlling the gate of an external N-channel MOSFET so that its source terminal follows the tracking profile set by external (See Datasheet)", 4 D1 "Remote Sense Switches #1 and #2. A 10ohm (max) switch connects each pair of pins (D1/S1 and D2/S2) after MGATE, SGATE1 and SGATE2 are all fully enhanced (MGATE > RAMP + 4.9V or RAMP > VCC, and SGATE1, SGATE2 > VCC + 4.9V). (See Datasheet)", 5 ON (in) "On Control Input. The ON pin has a threshold of 1.23V with 75mV of hysteresis. A high causes 10uA to flow out of the MGATE pin, ramping up the supplies. A low causes 10uA to flow into the MGATE pin, ramping down the supplies.(See Datasheet)", 6 PGTMR (in) "Power Good Timer. Connect an external capacitor between PGTMR and GND to set the Power Good Time-Out Delay. When the ON pin is above 1.23V, a 10uA current pulls up PGTMR to VCC, otherwise an internal N-channel MOSFET pulls (See Datasheet)", 7 ~{FAULT} (io) "Negative-Logic Fault Input/Output. Under normal conditions the internal fault latch is not set and an 8.5uA current pulls up F\A\U\L\T\ to a diode drop below VCC. When the voltage at F\A\U\L\T\ is pulled below 0.5V, a fault (See Datasheet)", 8 GND (power) "Device Ground.", 9 RAMP (in) "Ramp Buffer Input. Connect the RAMP pin to the master ramp signal to force the slave supplies to track it. When the RAMP pin is connected to the source of an external N-channel MOSFET, the slave supplies track the MOSFET’(See Datasheet)", 10 MGATE (out) "Master Gate Drive for External N-Channel MOSFET/Master Ramp. When the ON pin is high, an internal 10uA current charges the gate of an external N-channel MOSFET. A capacitor from MGATE to GND sets the master ramp rate. Add a (See Datasheet)", 11 RSGATE (out) "Gate Drive for Internal and External N-Channel MOSFET Remote Sense Switches. A remote sense path between a load and the sense input of its supply generator automatically compensates for voltage drops across the tracking (See Datasheet)", 12 STATUS/PGI (io) "Status Output/Power Good Input. A 10uA current pulls up STATUS/PGI when MGATE, SGATE1 and SGATE2 are fully enhanced, and the remote sense switches are closed, otherwise an internal N-channel MOSFET pulls down STATUS/PGI. If (See Datasheet)", 13 D2 "Remote Sense Switches #1 and #2. A 10ohm (max) switch connects each pair of pins (D1/S1 and D2/S2) after MGATE, SGATE1 and SGATE2 are all fully enhanced (MGATE > RAMP + 4.9V or RAMP > VCC, and SGATE1, SGATE2 > VCC + 4.9V). (See Datasheet)", 14 SGATE2 (out) "Slave Gate Controllers for External N-Channel MOSFETs. Each SGATE pin ramps a slave supply by controlling the gate of an external N-channel MOSFET so that its source terminal follows the tracking profi le set by external (See Datasheet)", 15 S2 "Remote Sense Switches #1 and #2. A 10ohm (max) switch connects each pair of pins (D1/S1 and D2/S2) after MGATE, SGATE1 and SGATE2 are all fully enhanced (MGATE > RAMP + 4.9V or RAMP > VCC, and SGATE1, SGATE2 > VCC + 4.9V). (See Datasheet)", 16 FB2 (io) "Feedback Control Input/Outputs. Each FB pin connects to the feedback node of a slave supply. Connect an FB pin to the tap point of a resistive voltage divider between the source (load side) of the external MOSFET and GND. (See Datasheet)", 17 TRACK2 (in) "Tracking Control Inputs. A resistive voltage divider between RAMPBUF and each TRACK pin determines the tracking profi le of each supply channel. Each TRACK pin pulls up to 0.8V, and the current supplied at TRACK is mirrored (See Datasheet)", 18 RAMPBUF (out) "Ramp Buffer Output. The RAMPBUF pin provides a low impedance buffered version of the signal on the RAMP pin. This buffered output drives the resistive voltage dividers that connect to the TRACK pins. Limit the capacitance at (See Datasheet)", 19 VCC (power) "Positive Voltage Supply. Operating range is from 2.9V to 5.5V. An undervoltage lockout resets the part when the supply is below 2.4V. VCC should be bypassed to GND with a 0.1uF capacitor.", 20 TRACK1 (in) "Tracking Control Inputs. A resistive voltage divider between RAMPBUF and each TRACK pin determines the tracking profi le of each supply channel. Each TRACK pin pulls up to 0.8V, and the current supplied at TRACK is mirrored (See Datasheet)", 21 EP (power) "Exposed pad may be left open or connected to device GND."

## LTC2926CUFD#TR
designator U?
MOSFET-Controlled Power Supply Tracker, 20-pin QFN (UFD-20), 0 to 70 degC, Tape and Reel; Manufacturer: Linear Technology; PartNumber: LTC2926CUFD#TR; Number of Supplies(#): 3; DatasheetVersion: Rev. A; PackageVersion: Rev. B, 06/2010; PackageReference: UFD-20; PackageDescription: 20-Pin Plastic QFN, Body 5 x 4 mm, Pitch 0.5 mm; Packing: Tape and Reel; RoHS: FALSE; Mounting Technology: Surface Mount; Code_JEDEC: MO-220; ComponentLink1Description: Manufacturer URL; ComponentLink1URL: http://www.linear.com/; ComponentLink2Description: Datasheet; ComponentLink2URL: http://cds.linear.com/docs/en/datasheet/2926fa.pdf; ComponentLink3Description: Package Specification; ComponentLink3URL: http://cds.linear.com/docs/en/packaging/QFN_20_05-08-1711.pdf
footprint LT-UFD-20_N (QFN, 20-Leads, Body 5.1x4.1mm, Pitch 0.5mm, Thermal Pad 2.65x3.65mm, IPC Medium Density)
footprint LT-UFD-20_L (QFN, 20-Leads, Body 5.1x4.1mm, Pitch 0.5mm, Thermal Pad 2.65x3.65mm, IPC High Density)
footprint LT-UFD-20_M (QFN, 20-Leads, Body 5.1x4.1mm, Pitch 0.5mm, Thermal Pad 2.65x3.65mm, IPC Low Density)
pins: 1 FB1 (io) "Feedback Control Input/Outputs. Each FB pin connects to the feedback node of a slave supply. Connect an FB pin to the tap point of a resistive voltage divider between the source (load side) of the external MOSFET and GND. (See Datasheet)", 2 S1 "Remote Sense Switches #1 and #2. A 10ohm (max) switch connects each pair of pins (D1/S1 and D2/S2) after MGATE, SGATE1 and SGATE2 are all fully enhanced (MGATE > RAMP + 4.9V or RAMP > VCC, and SGATE1, SGATE2 > VCC + 4.9V). (See Datasheet)", 3 SGATE1 (out) "Slave Gate Controllers for External N-Channel MOSFETs. Each SGATE pin ramps a slave supply by controlling the gate of an external N-channel MOSFET so that its source terminal follows the tracking profile set by external (See Datasheet)", 4 D1 "Remote Sense Switches #1 and #2. A 10ohm (max) switch connects each pair of pins (D1/S1 and D2/S2) after MGATE, SGATE1 and SGATE2 are all fully enhanced (MGATE > RAMP + 4.9V or RAMP > VCC, and SGATE1, SGATE2 > VCC + 4.9V). (See Datasheet)", 5 ON (in) "On Control Input. The ON pin has a threshold of 1.23V with 75mV of hysteresis. A high causes 10uA to flow out of the MGATE pin, ramping up the supplies. A low causes 10uA to flow into the MGATE pin, ramping down the supplies.(See Datasheet)", 6 PGTMR (in) "Power Good Timer. Connect an external capacitor between PGTMR and GND to set the Power Good Time-Out Delay. When the ON pin is above 1.23V, a 10uA current pulls up PGTMR to VCC, otherwise an internal N-channel MOSFET pulls (See Datasheet)", 7 ~{FAULT} (io) "Negative-Logic Fault Input/Output. Under normal conditions the internal fault latch is not set and an 8.5uA current pulls up F\A\U\L\T\ to a diode drop below VCC. When the voltage at F\A\U\L\T\ is pulled below 0.5V, a fault (See Datasheet)", 8 GND (power) "Device Ground.", 9 RAMP (in) "Ramp Buffer Input. Connect the RAMP pin to the master ramp signal to force the slave supplies to track it. When the RAMP pin is connected to the source of an external N-channel MOSFET, the slave supplies track the MOSFET’(See Datasheet)", 10 MGATE (out) "Master Gate Drive for External N-Channel MOSFET/Master Ramp. When the ON pin is high, an internal 10uA current charges the gate of an external N-channel MOSFET. A capacitor from MGATE to GND sets the master ramp rate. Add a (See Datasheet)", 11 RSGATE (out) "Gate Drive for Internal and External N-Channel MOSFET Remote Sense Switches. A remote sense path between a load and the sense input of its supply generator automatically compensates for voltage drops across the tracking (See Datasheet)", 12 STATUS/PGI (io) "Status Output/Power Good Input. A 10uA current pulls up STATUS/PGI when MGATE, SGATE1 and SGATE2 are fully enhanced, and the remote sense switches are closed, otherwise an internal N-channel MOSFET pulls down STATUS/PGI. If (See Datasheet)", 13 D2 "Remote Sense Switches #1 and #2. A 10ohm (max) switch connects each pair of pins (D1/S1 and D2/S2) after MGATE, SGATE1 and SGATE2 are all fully enhanced (MGATE > RAMP + 4.9V or RAMP > VCC, and SGATE1, SGATE2 > VCC + 4.9V). (See Datasheet)", 14 SGATE2 (out) "Slave Gate Controllers for External N-Channel MOSFETs. Each SGATE pin ramps a slave supply by controlling the gate of an external N-channel MOSFET so that its source terminal follows the tracking profi le set by external (See Datasheet)", 15 S2 "Remote Sense Switches #1 and #2. A 10ohm (max) switch connects each pair of pins (D1/S1 and D2/S2) after MGATE, SGATE1 and SGATE2 are all fully enhanced (MGATE > RAMP + 4.9V or RAMP > VCC, and SGATE1, SGATE2 > VCC + 4.9V). (See Datasheet)", 16 FB2 (io) "Feedback Control Input/Outputs. Each FB pin connects to the feedback node of a slave supply. Connect an FB pin to the tap point of a resistive voltage divider between the source (load side) of the external MOSFET and GND. (See Datasheet)", 17 TRACK2 (in) "Tracking Control Inputs. A resistive voltage divider between RAMPBUF and each TRACK pin determines the tracking profi le of each supply channel. Each TRACK pin pulls up to 0.8V, and the current supplied at TRACK is mirrored (See Datasheet)", 18 RAMPBUF (out) "Ramp Buffer Output. The RAMPBUF pin provides a low impedance buffered version of the signal on the RAMP pin. This buffered output drives the resistive voltage dividers that connect to the TRACK pins. Limit the capacitance at (See Datasheet)", 19 VCC (power) "Positive Voltage Supply. Operating range is from 2.9V to 5.5V. An undervoltage lockout resets the part when the supply is below 2.4V. VCC should be bypassed to GND with a 0.1uF capacitor.", 20 TRACK1 (in) "Tracking Control Inputs. A resistive voltage divider between RAMPBUF and each TRACK pin determines the tracking profi le of each supply channel. Each TRACK pin pulls up to 0.8V, and the current supplied at TRACK is mirrored (See Datasheet)", 21 EP (power) "Exposed pad may be left open or connected to device GND."